# EAGLE library part 74*238 (library 74xx-eu)
3 TO 8 LINE DECODER (DEMULTIPLEXER)
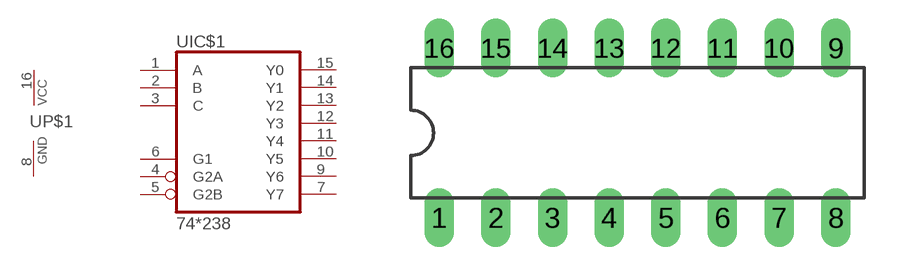
[diagram p333: symbol with the pads of DIL16; footprint DIL16]

Designator prefix -; gates IC$1=74238 P$1=PWRN

## 74238, 74HCT238  [DIL16]
1  IC$1:A  in
2  IC$1:B  in
3  IC$1:C  in
4  IC$1:G2A  in
5  IC$1:G2B  in
6  IC$1:G1  in
7  IC$1:Y7  out
8  P$1:GND  pwr
9  IC$1:Y6  out
10  IC$1:Y5  out
11  IC$1:Y4  out
12  IC$1:Y3  out
13  IC$1:Y2  out
14  IC$1:Y1  out
15  IC$1:Y0  out
16  P$1:VCC  pwr

## Footprint DIL16 (pad centres in mm)
Dual In Line Package
drill 0.813 long: 1 -8.89,-3.81; 2 -6.35,-3.81; 3 -3.81,-3.81; 4 -1.27,-3.81; 5 1.27,-3.81; 6 3.81,-3.81; 7 6.35,-3.81; 8 8.89,-3.81; 9 8.89,3.81; 10 6.35,3.81; 11 3.81,3.81; 12 1.27,3.81; 13 -1.27,3.81; 14 -3.81,3.81; 15 -6.35,3.81; 16 -8.89,3.81